# EAGLE library part LU12MP (library Kabely)
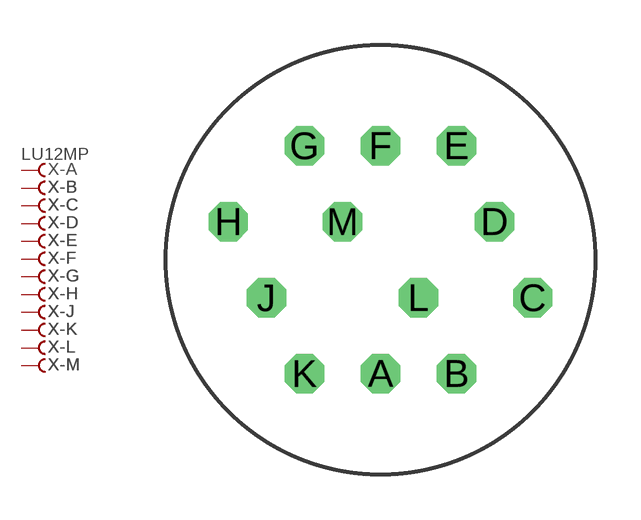
[diagram p0: symbol with the pads of LU12MP; footprint LU12MP]

Designator prefix X; gates -A=FV -B=F -C=F -D=F -E=F -F=F -G=F -H=F -J=F -K=F -L=F -M=F

## LU12MP (LU: 12-Pin)  [LU12MP]
A  -A:F  pas
B  -B:F  pas
C  -C:F  pas
D  -D:F  pas
E  -E:F  pas
F  -F:F  pas
G  -G:F  pas
H  -H:F  pas
J  -J:F  pas
K  -K:F  pas
L  -L:F  pas
M  -M:F  pas

## Footprint LU12MP (pad centres in mm)
drill 0.8 octagon: A 0,-3.81; B 2.54,-3.81; C 5.08,-1.27; D 3.81,1.27; E 2.54,3.81; F 0,3.81; G -2.54,3.81; H -5.08,1.27; J -3.81,-1.27; K -2.54,-3.81; L 1.27,-1.27; M -1.27,1.27